# Altium schematic symbol library SZ1V5.SchLib: 1 symbol
Pins are listed as number, name and electrical type; pins without a type are passive.

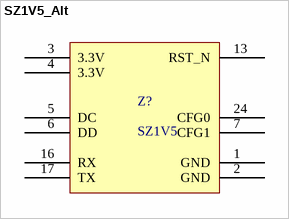
[diagram p0: symbol SZ1V5_Alt]

## SZ1V5_Alt
designator Z?, comment SZ1V5
footprint SZ1V5_PINOUT
footprint SZ1V5_SMD
footprint SZ1V5 PINOUT MODULE
pins: 1 GND, 2 GND, 3 3.3V, 4 3.3V, 5 DC, 6 DD, 7 CFG1, 13 RST_N, 16 RX, 17 TX, 24 CFG0